# Altium footprint library TB006-508-02BE.PcbLib: 1 footprints
Each footprint in its own frame and in the unit in brackets; x right, y up, seen from the top. Pads: shape width x height; smd on the part's side, far side on the other; paste and mask are expansions set on the pad; w line width, h text height; cw(c..) or ccw(c..) is an arc to the next point about the centre after c.
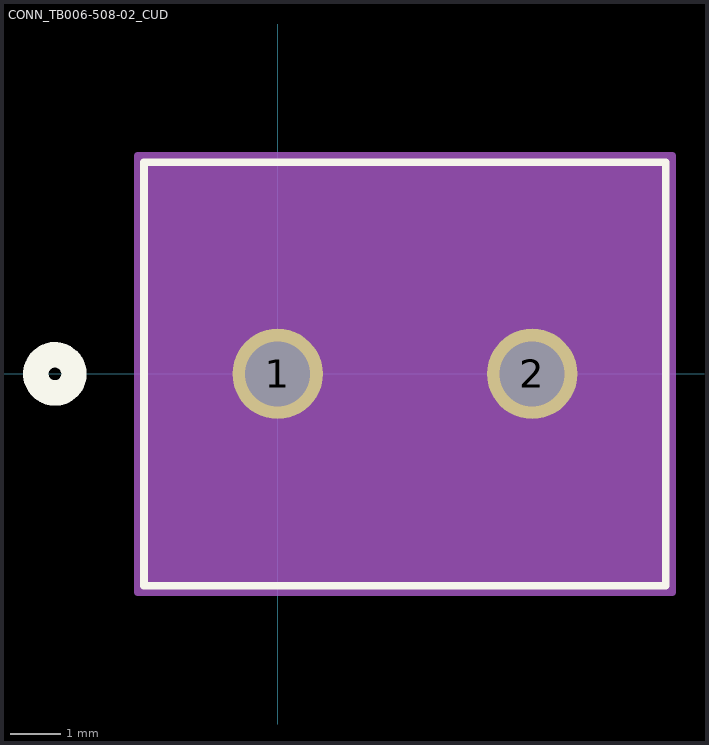
[diagram p0: the footprint, top view; thin cyan lines are the x and y axes]

## CONN_TB006-508-02_CUD [mil]
pads (2):
  round 71 / inner round 60 / far side round 71 hole 51 paste-35.5 mask+0: 1(0,0) 2(200,0)
Top Overlay:
  circle w20: c-175,0 r15
  lines w6: -105,-166.58 305,-166.58 305,166.42 -105,166.42 -105,-166.58
Bottom Overlay:
  circle w20: c-175,0 r15
Mechanical 13:
  circle w20: c0,75 r15
  lines w1: -100,-161.58 300,-161.58 300,161.42 -100,161.42 -100,-161.58
Mechanical 15:
  region: 310,171.42 -110,171.42 -110,-171.58 310,-171.58
  lines w6: -110,-171.58 -110,171.42 310,171.42 310,-171.58 -110,-171.58